# Altium footprint library JoyStick.PcbLib: 13 footprints
Each footprint in its own frame and in the unit in brackets; x right, y up, seen from the top. Pads: shape width x height; smd on the part's side, far side on the other; paste and mask are expansions set on the pad; w line width, h text height; cw(c..) or ccw(c..) is an arc to the next point about the centre after c.
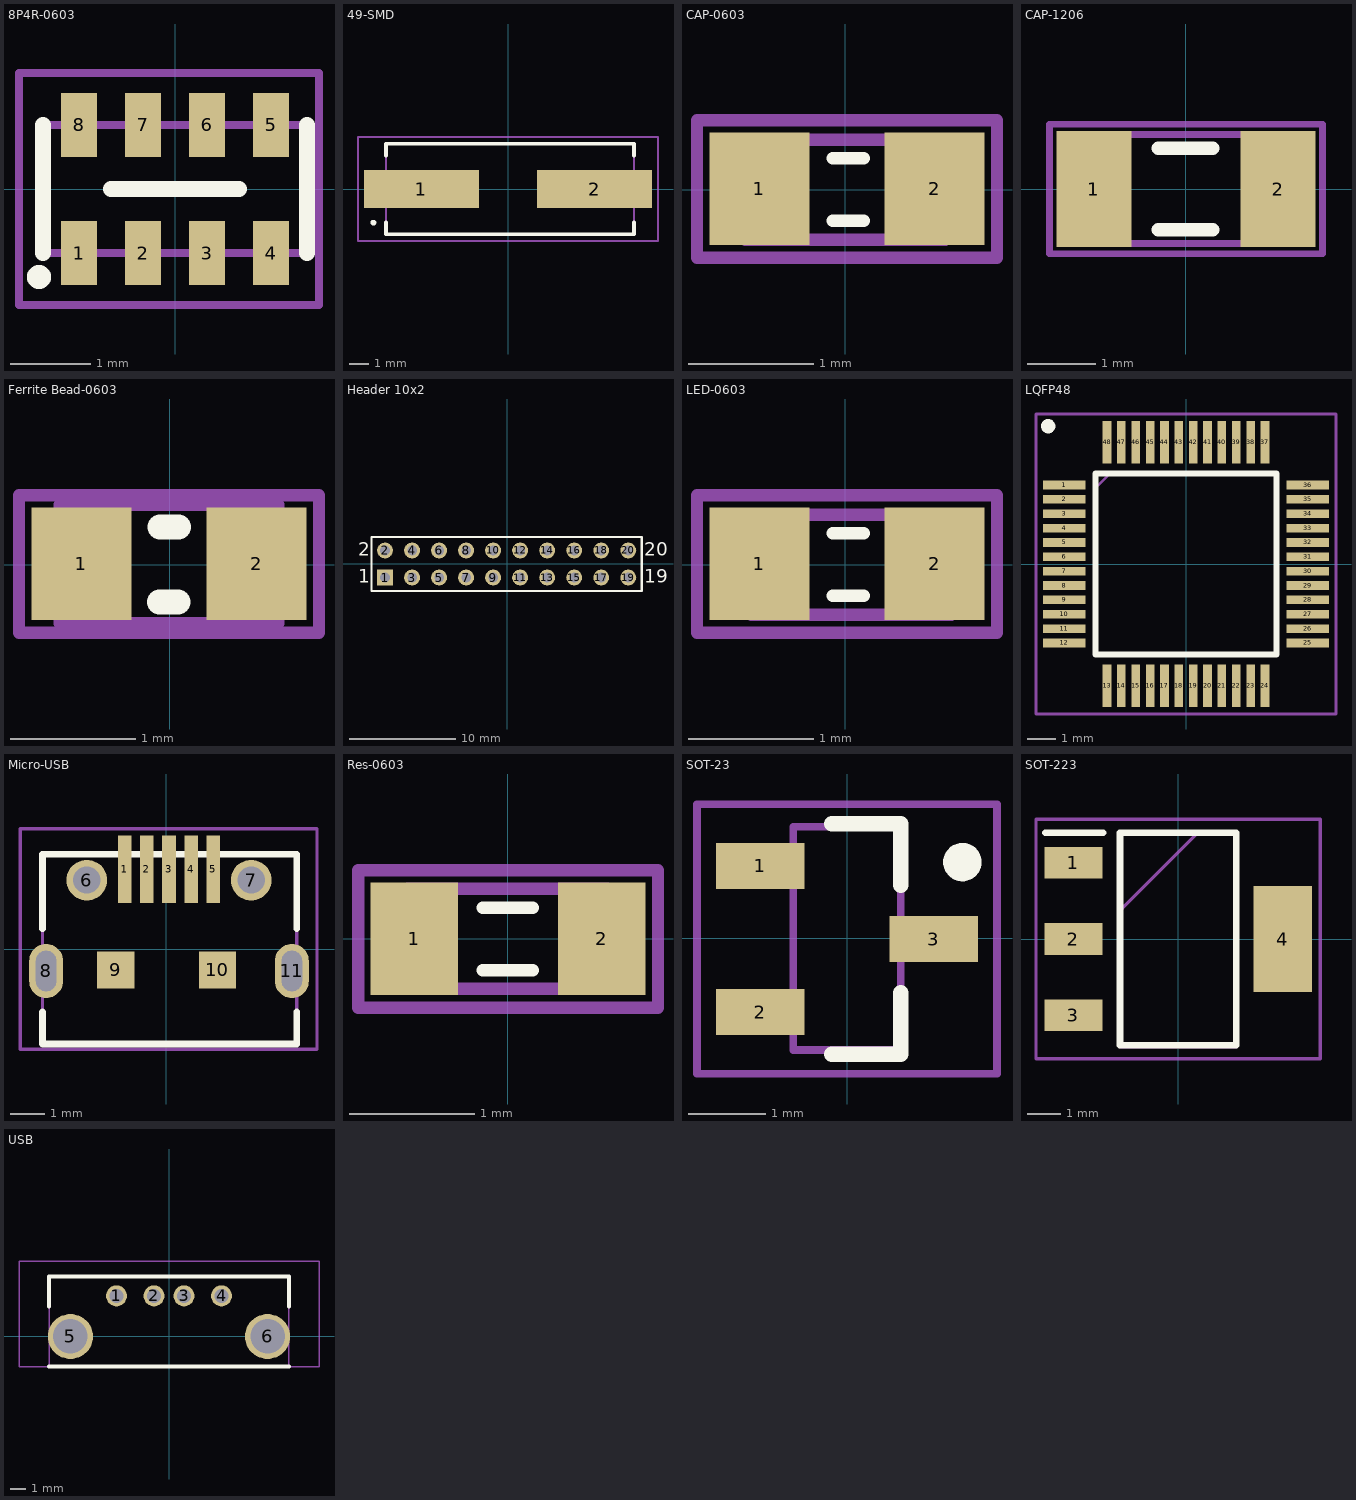
[diagram p0: the footprints below, top view; thin cyan lines are the x and y axes]

## 8P4R-0603 [mm] "8P4R 1.6mmx0.8mm 排阻"
pads (8):
  rect 0.45x0.8 smd: 1(-1.2,-0.8) 2(-0.4,-0.8) 3(0.4,-0.8) 4(1.2,-0.8) 5(1.2,0.8) 6(0.4,0.8) 7(-0.4,0.8) 8(-1.2,0.8)
Top Overlay:
  lines w0.2: -1.65,-0.8 -1.65,0.8 ; -0.8,0 0.8,0 ; 1.65,-0.8 1.65,0.8 ; -1.75,-1.1 ccw(c-1.7,-1.1) -1.65,-1.1 ; -1.75,-1.1 cw(c-1.7,-1.1) -1.65,-1.1 ; -1.75,-1.1 ccw(c-1.7,-1.1) -1.65,-1.1
Mechanical 13:
  lines w0.1: -1.6,-0.8 -1.6,0.8 1.6,0.8 1.6,-0.8 -1.6,-0.8
Mechanical 15:
  lines w0.1: -1.95,-1.45 -1.95,1.45 1.8,1.45 1.8,-1.45 -1.95,-1.45
3D body "User Library-R-0603-Array-4-1.STEP": height 0.01, standoff -0.51, extent -1.6,-0.8 1.6,0.8

## 49-SMD [mm] "49SMD 无源晶振"
pads (2):
  rect 6x2 smd: 1(-4.5,0) 2(4.5,0)
Top Overlay:
  lines w0.1: -6.35,-2.35 6.55,-2.35 ; -6.35,2.35 6.55,2.35
  lines w0.2: -6.35,-1.75 -6.35,-2.35 6.55,-2.35 6.55,-1.75 ; -6.35,1.75 -6.35,2.35 6.55,2.35 6.55,1.75 ; -7.05,-1.75 cw(c-7,-1.75) -6.95,-1.75 cw(c-7,-1.75) -7.05,-1.75
Mechanical 13:
  lines w0.1: -6.35,-2.35 -6.35,2.35 6.55,2.35 6.55,-2.35 -6.35,-2.35
Mechanical 15:
  lines w0.1: -7.8,-2.7 -7.8,2.7 7.8,2.7 7.8,-2.7 -7.8,-2.7
3D body "User Library-jingzhen.STEP": height 4, standoff 0, extent -6.35,-2.35 6.55,2.35

## CAP-0603 [mm] "电容 1.6mmx0.8mm"
pads (2):
  rect 0.8x0.9 smd: 1(-0.685,0.004) 2(0.715,0.004)
Top Overlay:
  lines w0.1: -0.1,-0.25 0.15,-0.25 ; -0.1,0.25 0.15,0.25
Mechanical 13:
  lines w0.1: -0.8,-0.4 0.8,-0.4 0.8,0.4 -0.8,0.4 -0.8,-0.4
Mechanical 15:
  lines w0.1: -1.185,-0.546 1.215,-0.546 1.215,0.554 -1.185,0.554 -1.185,-0.546
3D body "User Library-CAP0603-2.STEP": height 0.8, standoff 0, extent -0.8,-0.4 0.8,0.4

## CAP-1206 [mm] "电容 3.2mmx1.6mm"
pads (2):
  rect 1.1x1.7 smd: 1(-1.343,0) 2(1.357,0)
Top Overlay:
  lines w0.2: -0.4,-0.6 0.4,-0.6 ; -0.4,0.6 0.4,0.6
Mechanical 13:
  lines w0.1: -1.6,-0.8 1.6,-0.8 1.6,0.8 -1.6,0.8 -1.6,-0.8
Mechanical 15:
  lines w0.1: -1.993,-0.95 2.007,-0.95 2.007,0.95 -1.993,0.95 -1.993,-0.95
3D body "User Library-CAP1206-1.STEP": height 1.6, standoff 0, extent -1.592,-0.8 1.608,0.8

## Ferrite Bead-0603 [mm] "磁珠 1.6mmx0.8mm"
pads (2):
  rect 0.8x0.9 smd: 1(-0.708,0.004) 2(0.692,0.004)
Top Overlay:
  lines w0.2: -0.085,-0.3 0.065,-0.3 ; -0.08,0.3 0.07,0.3
Mechanical 13:
  lines w0.1: -0.883,-0.471 -0.883,0.479 0.867,0.479 0.867,-0.471 -0.883,-0.471
Mechanical 15:
  lines w0.1: -1.208,-0.546 -1.208,0.554 1.192,0.554 1.192,-0.546 -1.208,-0.546
3D body "742792609.stp": height 0.75, standoff -0.05, extent -0.75,-0.4 0.85,0.4

## Header 10x2 [mm] "10x2 插针"
pads (20):
  rect 1.5x1.5 hole 0.9: 1(-11.47,-1.3)
  round 1.5 hole 0.9: 2(-11.47,1.24) 3(-8.93,-1.3) 4(-8.93,1.24) 5(-6.39,-1.3) 6(-6.39,1.24) 7(-3.85,-1.3) 8(-3.85,1.24) 9(-1.31,-1.3) 10(-1.31,1.24) 11(1.23,-1.3) 12(1.23,1.24) 13(3.77,-1.3) 14(3.77,1.24) 15(6.31,-1.3) 16(6.31,1.24) 17(8.85,-1.3) 18(8.85,1.24) 19(11.39,-1.3) 20(11.39,1.24)
Top Overlay:
  lines w0.2: -12.74,-2.57 -10.835,-2.57 12.66,-2.57 12.66,2.51 -10.835,2.51 -12.74,2.51 -12.74,-2.57
  text "20" at 12.914,0.732 h1.27
  text "19" at 12.914,-1.808 h1.27
  text "1" at -14.01,-1.808 h1.27
  text "2" at -14.01,0.732 h1.27
3D body "94153.stp": height 9.7, standoff -3, extent -12.7,-2.5 12.7,3.65

## LED-0603 [mm] "LED灯 1.6mmx0.8mm"
pads (2):
  rect 0.8x0.9 smd: 1(-0.685,0.004) 2(0.715,0.004)
Top Overlay:
  lines w0.1: -0.1,-0.25 0.15,-0.25 ; -0.1,0.25 0.15,0.25
Mechanical 13:
  lines w0.1: -0.75,-0.4 -0.75,0.4 0.85,0.4 0.85,-0.4 -0.75,-0.4
Mechanical 15:
  lines w0.1: -1.185,-0.546 -1.185,0.554 1.215,0.554 1.215,-0.546 -1.185,-0.546
3D body "ALSRobot-LED0603(G).STEP": height 0.6, standoff 0, extent -0.77,-0.4 0.85,0.4

## LQFP48 [mm] "STM32F103C8T6"
pads (48):
  rect 1.475x0.3 smd: 1(-4.238,2.75) 2(-4.238,2.25) 3(-4.238,1.75) 4(-4.238,1.25) 5(-4.238,0.75) 6(-4.238,0.25) 7(-4.238,-0.25) 8(-4.238,-0.75) 9(-4.238,-1.25) 10(-4.238,-1.75) 11(-4.238,-2.25) 12(-4.238,-2.75) 25(4.238,-2.75) 26(4.238,-2.25) 27(4.238,-1.75) 28(4.238,-1.25) 29(4.238,-0.75) 30(4.238,-0.25) 31(4.238,0.25) 32(4.238,0.75) 33(4.238,1.25) 34(4.238,1.75) 35(4.238,2.25) 36(4.238,2.75)
  rect 0.3x1.475 smd: 13(-2.75,-4.238) 14(-2.25,-4.238) 15(-1.75,-4.238) 16(-1.25,-4.238) 17(-0.75,-4.238) 18(-0.25,-4.238) 19(0.25,-4.238) 20(0.75,-4.238) 21(1.25,-4.238) 22(1.75,-4.238) 23(2.25,-4.238) 24(2.75,-4.238) 37(2.75,4.238) 38(2.25,4.238) 39(1.75,4.238) 40(1.25,4.238) 41(0.75,4.238) 42(0.25,4.238) 43(-0.25,4.238) 44(-0.75,4.238) 45(-1.25,4.238) 46(-1.75,4.238) 47(-2.25,4.238) 48(-2.75,4.238)
Top Overlay:
  circle w0.25: c-4.8,4.8 r0.125
  lines w0.2: -3.15,-3.15 3.15,-3.15 3.15,3.15 -3.15,3.15 -3.15,-3.15
Mechanical 13:
  lines w0.1: -3.15,2.65 -2.65,3.15 ; -3.15,-3.15 3.15,-3.15 3.15,3.15 -3.15,3.15 -3.15,-3.15
Mechanical 15:
  lines w0.1: -5.225,-5.225 5.225,-5.225 5.225,5.225 -5.225,5.225 -5.225,-5.225
3D body "User Library-STM32F103C8T6.STEP": height 1.4, standoff -0.15, extent -4.5,-4.5 4.5,4.5

## Micro-USB [mm] "Micro USB 牛角无卷边母头"
pads (11):
  rect 0.4x2 smd: 1(-1.217,2.356) 2(-0.567,2.356) 3(0.083,2.356) 4(0.733,2.356) 5(1.383,2.356)
  round 1.2 / inner round 1.524 / far side round 1.2 hole 0.8: 6(-2.342,2.036) 7(2.508,2.036)
  oval 1x1.6 hole 0.6 slot 1.2 at 90 deg: 8(-3.542,-0.644) 11(3.708,-0.644)
  rect 1.1x1.1 smd: 9(-1.487,-0.614) 10(1.513,-0.614)
Top Overlay:
  lines w0.2: -3.65,-1.85 -3.65,-2.8 3.85,-2.8 3.85,-1.85 ; -3.65,0.6 -3.65,2.8 ; -3.647,2.8 3.813,2.8 ; 3.85,0.6 3.85,2.8
Mechanical 11:
  lines w0.1: -4.3,-2.95 -4.3,3.55 4.45,3.55 4.45,-2.95 -4.3,-2.95
Mechanical 13:
  lines w0.1: -3.65,-2.8 -3.65,2.8 3.85,2.8 3.85,-2.8 -3.65,-2.8
3D body "User Library-Micro_USB-1.STEP": height 0.68, standoff -2.92, extent -3.65,-2.775 3.85,2.725

## Res-0603 [mm] "电阻 1.6mmx0.8mm"
pads (2):
  rect 0.7x0.9 smd: 1(-0.75,0) 2(0.75,0)
Top Overlay:
  lines w0.1: -0.2,-0.25 0.2,-0.25 ; -0.2,0.25 0.2,0.25
Mechanical 13:
  lines w0.1: -0.8,-0.4 -0.8,0.4 0.8,0.4 0.8,-0.4 -0.8,-0.4
Mechanical 15:
  lines w0.1: -1.2,-0.55 -1.2,0.55 1.2,0.55 1.2,-0.55 -1.2,-0.55
3D body "User Library-RES_0603-1.STEP": height 0.4, standoff -0.06, extent -0.8,-0.4 0.8,0.4

## SOT-23 [mm] "三极管 SOT-23"
pads (3):
  rect 1.15x0.6 smd: 1(-1.129,0.942) 2(-1.129,-0.958) 3(1.121,-0.008)
Top Overlay:
  circle w0.25: c1.496,0.992 r0.125
  lines w0.2: -0.204,-1.508 0.696,-1.508 0.696,-0.708 ; -0.204,1.492 0.696,1.492 0.696,0.692
Mechanical 13:
  lines w0.1: -0.704,-1.45 -0.704,1.45 0.696,1.45 0.696,-1.45 -0.704,-1.45
Mechanical 15:
  lines w0.1: -1.954,-1.758 -1.954,1.742 1.946,1.742 1.946,-1.758 -1.954,-1.758
3D body: height 0.25, standoff 0, extent -1.19,-1.46 1.15,1.46

## SOT-223 [mm] "LM1117-3.3 SOT 223"
pads (4):
  rect 1.75x0.95 smd: 1(-3.15,2.3) 2(-3.15,0) 3(-3.15,-2.3)
  rect 1.75x3.2 smd: 4(3.15,0)
Top Overlay:
  lines w0.2: -4,3.2 -2.25,3.2 ; -1.75,-3.2 -1.75,3.2 1.75,3.2 1.75,-3.2 -1.75,-3.2
Mechanical 13:
  lines w0.1: -1.75,0.85 0.55,3.15 ; -1.75,-3.25 -1.75,3.15 1.75,3.15 1.75,-3.25 -1.75,-3.25
Mechanical 15:
  lines w0.1: -4.275,-3.6 -4.275,3.6 4.275,3.6 4.275,-3.6 -4.275,-3.6
3D body "User Library-AMS1117.STEP": height 1.85, standoff -0.01, extent -4.1,-3.3 2.9,3.2

## USB [mm] "USB-A"
pads (6):
  round 1.4 hole 0.92: 1(-3.5,2.71) 2(-1,2.71) 3(1,2.71) 4(3.5,2.71)
  round 3 hole 2.3: 5(-6.57,0) 6(6.57,0)
Top Overlay:
  lines w0.254: -8,-2 8,-2 ; -8,2 -8,4 8,4 8,2
Mechanical 11:
  lines w0.1: -10,-2 10,-2 10,5 -10,5 -10,-2
Mechanical 13:
  lines w0.1: -8,-2 -8,4 8,4 8,-2 -8,-2
3D body "72w2538_292303-4.stp": height 2.65, standoff -8.62, extent -8.147,-10.22 8.087,3.78